# Altium schematic symbol library WL-SBCC.SchLib: 1 symbol
Pins are listed as number, name and electrical type; pins without a type are passive.

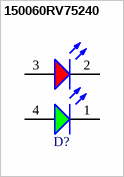
[diagram p0: symbol 150060RV75240]

## 150060RV75240
designator D?, comment Red & Bright Green, 2V, 140°  (value not drawn)
WL-SBCC SMT Bi-color Chip LED Compact, size 0603, Red & Bright Green, 2V, 140°; Manufacturer Part Number: 150060RV75240; Manufacturer: Wurth Elektronik; Case/Size Code: 0603; Chip Technology: AlInGaP; Dominant Wavelength (Bright Green): 570nm; Dominant Wavelength (Red): 625nm; Luminous Intensity (Bright Green): 90mcd; Luminous Intensity (Red): 230mcd; Peak Wavelength (Bright Green): 572nm; Peak Wavelength (Red): 630nm; Category: Signal LEDs; Match Code: WL-SBCC; ComponentLink1Description: Website Link; ComponentLink1URL: https://www.we-online.com/redexpert/article/150060RV75240?ad; ComponentLink2Description: Datasheet Link; ComponentLink2URL: https://www.we-online.com/redexpert/spec/150060RV75240?ad; Mount: Surface Mount; Operating Temperature Max: 85°C; Operating Temperature Min: -40°C; Packaging: Tape and Reel; Length: 1.6mm; Width: 0.8mm; Height: 0.4mm; Emitting Color: Red & Bright Green; Forward Voltage (Bright Green): 2V; Forward Voltage (Red): 2V; Viewing Angle: 140°
footprint WL-SBCC_0603
simulation model 0603_150060RV75240
pins: 1 K, 2 K, 3 A, 4 A